# Altium footprint library EL.XXX.T01.PcbLib: 92 footprints (part 1 of 6)
Each footprint in its own frame and in the unit in brackets; x right, y up, seen from the top. Pads: shape width x height; smd on the part's side, far side on the other; paste and mask are expansions set on the pad; w line width, h text height; cw(c..) or ccw(c..) is an arc to the next point about the centre after c.
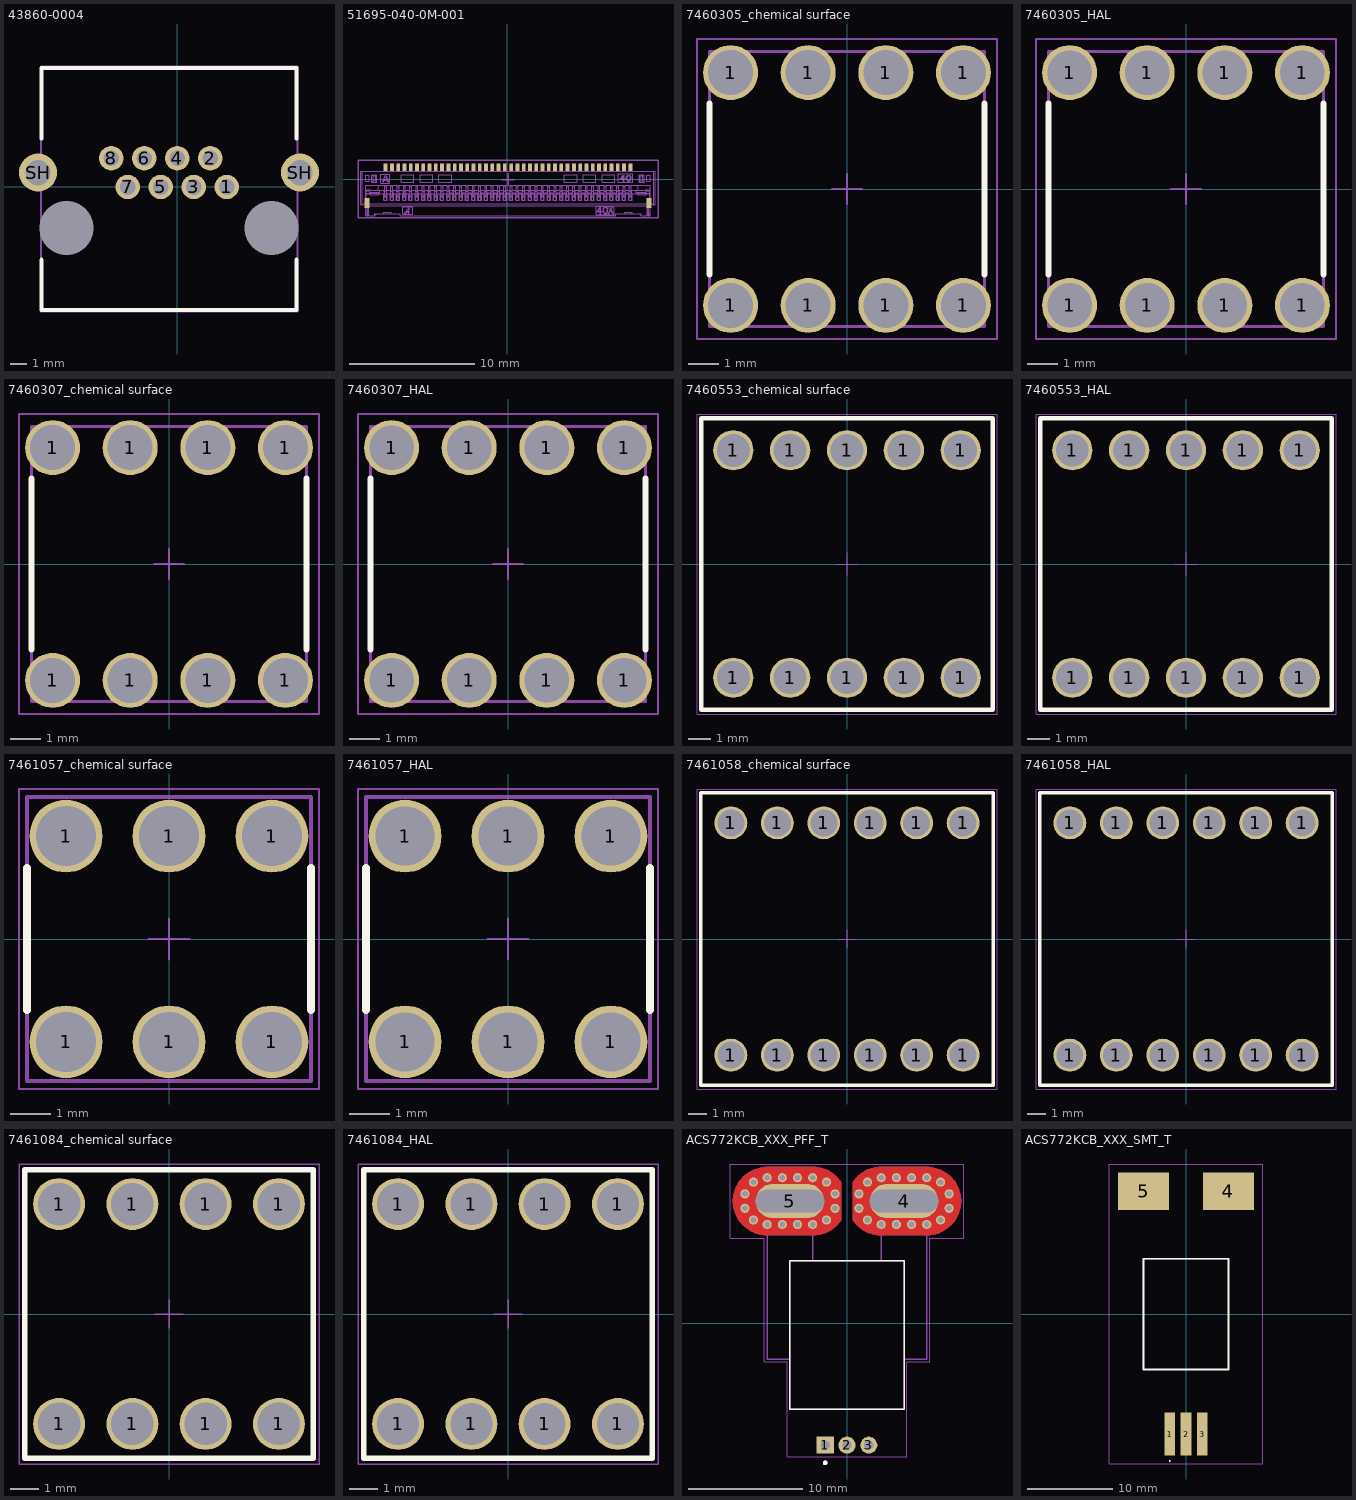
[diagram p0: the footprints below, top view; thin cyan lines are the x and y axes]

## 43860-0004 [mm]
pads (12):
  round 1.509 hole 0.97: 1(3.06,0) 2(2.04,1.78) 3(1.02,0) 4(0,1.78) 5(-1.02,0) 6(-2.04,1.78) 7(-3.06,0) 8(-4.08,1.78)
  round 0 hole 3.33 unplated paste-2539.97 mask+0.05: MP(-6.86,-2.54) MP(5.84,-2.54)
  round 2.355 hole 1.57: SH(-8.61,0.89) SH(7.59,0.89)
Top Overlay:
  lines w0.25: -8.385,-4.5 -8.385,-7.62 7.365,-7.62 7.365,-4.5 ; -8.385,3 -8.385,7.37 7.365,7.37 7.365,3
Top Designator:
  text ".Designator" at -2.7,8.9 h0.5
Top Assembly:
  circle w0.1: c-3.05,0 r0.424
  circle w0.1: c-1,0 r0.424
  circle w0.1: c1.049,0 r0.424
  circle w0.1: c3.1,0 r0.424
  circle w0.013: c-6.85,-2.55 r1.562
  circle w0.013: c5.85,-2.55 r1.562
  circle w0.1: c-4.1,1.8 r0.424
  circle w0.1: c-2.05,1.8 r0.424
  circle w0.1: c-0.001,1.8 r0.424
  circle w0.1: c2.05,1.8 r0.424
  lines w0.12: -8.44,-7.7 7.44,-7.7 7.44,7.45 -8.44,7.45 -8.44,-7.7
  text "RJ45" at -2.9,-6.7 h1.5
Top Value:
  text ".Comment" at -2.7,8.25 h0.5
3D body "43860-0004.stp": height 14.26, standoff -3.56, extent -9.57,-7.846 8.49,7.889

## 51695-040-0M-001 [mm]
pads (42):
  rect 0.3x0.6 smd mask+0.05: 1(-9.7,0.975) 2(-9.2,0.975) 3(-8.7,0.975) 4(-8.2,0.975) 5(-7.7,0.975) 6(-7.2,0.975) 7(-6.7,0.975) 8(-6.2,0.975) 9(-5.7,0.975) 10(-5.2,0.975) 11(-4.7,0.975) 12(-4.2,0.975) 13(-3.7,0.975) 14(-3.2,0.975) 15(-2.7,0.975) 16(-2.2,0.975) 17(-1.7,0.975) 18(-1.2,0.975) 19(-0.7,0.975) 20(-0.2,0.975) 21(0.3,0.975) 22(0.8,0.975) 23(1.3,0.975) 24(1.8,0.975) 25(2.3,0.975) 26(2.8,0.975) 27(3.3,0.975) 28(3.8,0.975) 29(4.3,0.975) 30(4.8,0.975) 31(5.3,0.975) 32(5.8,0.975) 33(6.3,0.975) 34(6.8,0.975) 35(7.3,0.975) 36(7.8,0.975) 37(8.3,0.975) 38(8.8,0.975) 39(9.3,0.975) 40(9.8,0.975)
  rect 0.4x0.8 smd mask+0.05: MP(-11.2,-1.875) MP(11.3,-1.875)
Top Courtyard:
  lines w0.1: -0.45,-0.025 0.55,-0.025 ; 0.05,-0.525 0.05,0.475 ; -11.9,-3.075 12,-3.075 12,1.525 -11.9,1.525 -11.9,-3.075
Top Designator:
  text ".Designator" at -1.775,2.65 h0.5
Top Assembly:
  drawing of 3027 lines, arcs and shapes, not listed
Top Value:
  text ".Comment" at -1.775,1.875 h0.5
3D body "S-51695-040xx-xxx.stp": height 1.2, standoff -0.03, extent -11.7,-2.925 11.8,1.125

## 7460305_chemical surface [mm] "WP-BUTR Bushes with two Rows Pin-Plate, M5, blind thr 6mm"
pads (8):
  round 1.8 hole 1.475: 1(-3.81,-3.81) 1(-3.81,3.81) 1(-1.27,-3.81) 1(-1.27,3.81) 1(1.27,-3.81) 1(1.27,3.81) 1(3.81,-3.81) 1(3.81,3.81)
Top Overlay:
  lines w0.2: -4.5,-2.8 -4.5,2.8 ; 4.5,-2.8 4.5,2.8
Top 3D Body:
  lines w0.1: -4.5,-4.5 -4.5,4.5 4.5,4.5 4.5,-4.5 -4.5,-4.5
Top Designator:
  lines w0.05: -0.5,0 0.5,0 ; 0,-0.5 0,0.5 ; -4.91,-4.91 4.91,-4.91 4.91,4.91 -4.91,4.91 -4.91,-4.91
Bottom Designator:
  text ".Designator" at -7.359,5.423 h1.5
Top Component Outline:
  lines w0.1: -4.5,-4.5 4.5,-4.5 4.5,4.5 -4.5,4.5 -4.5,-4.5
3D body "7460305.stp": height 7, standoff -3.5, extent -4.5,-4.5 4.5,4.5

## 7460305_HAL [mm] "WP-BUTR Bushes with two Rows Pin-Plate, M5, blind thr 6mm"
pads (8):
  round 1.8 hole 1.45: 1(-3.81,-3.81) 1(-3.81,3.81) 1(-1.27,-3.81) 1(-1.27,3.81) 1(1.27,-3.81) 1(1.27,3.81) 1(3.81,-3.81) 1(3.81,3.81)
Top Overlay:
  lines w0.2: -4.5,-2.8 -4.5,2.8 ; 4.5,-2.8 4.5,2.8
Top 3D Body:
  lines w0.1: -4.5,-4.5 -4.5,4.5 4.5,4.5 4.5,-4.5 -4.5,-4.5
Top Designator:
  lines w0.05: -0.5,0 0.5,0 ; 0,-0.5 0,0.5 ; -4.91,-4.91 -4.91,4.91 4.91,4.91 4.91,-4.91 -4.91,-4.91
Bottom Designator:
  text ".Designator" at -7.668,5.437 h1.5
Top Component Outline:
  lines w0.1: -4.5,-4.5 -4.5,4.5 4.5,4.5 4.5,-4.5 -4.5,-4.5
3D body "7460305.stp": height 7, standoff -3.5, extent -4.5,-4.5 4.5,4.5

## 7460307_chemical surface [mm] "WP-BUTR Bushes with two Rows Pin-Plate, M4, blind thr 6mm"
pads (8):
  round 1.8 hole 1.475: 1(-3.81,-3.81) 1(-3.81,3.81) 1(-1.27,-3.81) 1(-1.27,3.81) 1(1.27,-3.81) 1(1.27,3.81) 1(3.81,-3.81) 1(3.81,3.81)
Top Overlay:
  lines w0.2: -4.5,-2.8 -4.5,2.8 ; 4.5,-2.8 4.5,2.8
Top 3D Body:
  lines w0.1: -4.5,-4.5 4.5,-4.5 4.5,4.5 -4.5,4.5 -4.5,-4.5
Top Designator:
  lines w0.05: -0.5,0 0.5,0 ; 0,-0.5 0,0.5 ; -4.91,-4.91 -4.91,4.91 4.91,4.91 4.91,-4.91 -4.91,-4.91
Bottom Designator:
  text ".Designator" at -7.625,5.596 h1.5
Top Component Outline:
  lines w0.1: -4.5,-4.5 -4.5,4.5 4.5,4.5 4.5,-4.5 -4.5,-4.5
3D body "7460307.stp": height 7, standoff -3.5, extent -4.5,-4.5 4.5,4.5

## 7460307_HAL [mm] "WP-BUTR Bushes with two Rows Pin-Plate, M4, blind thr 6mm"
pads (8):
  round 1.8 hole 1.45: 1(-3.81,-3.81) 1(-3.81,3.81) 1(-1.27,-3.81) 1(-1.27,3.81) 1(1.27,-3.81) 1(1.27,3.81) 1(3.81,-3.81) 1(3.81,3.81)
Top Overlay:
  lines w0.2: -4.5,-2.8 -4.5,2.8 ; 4.5,-2.8 4.5,2.8
Top 3D Body:
  lines w0.1: -4.5,-4.5 -4.5,4.5 4.5,4.5 4.5,-4.5 -4.5,-4.5
Top Designator:
  lines w0.05: -0.5,0 0.5,0 ; 0,-0.5 0,0.5 ; -4.91,-4.91 -4.91,4.91 4.91,4.91 4.91,-4.91 -4.91,-4.91
Bottom Designator:
  text ".Designator" at -7.498,-0.5 h1.5
Top Component Outline:
  lines w0.1: -4.5,-4.5 4.5,-4.5 4.5,4.5 -4.5,4.5 -4.5,-4.5
3D body "7460307.stp": height 7, standoff -3.5, extent -4.5,-4.5 4.5,4.5

## 7460553_chemical surface [mm] "WP-BUTR Bushes with two Rows Pin-Plate, M8, blind thr 10mm"
pads (10):
  round 1.8 hole 1.475: 1(-5.08,-5.08) 1(-5.08,5.08) 1(-2.54,-5.08) 1(-2.54,5.08) 1(0,-5.08) 1(0,5.08) 1(2.54,-5.08) 1(2.54,5.08) 1(5.08,-5.08) 1(5.08,5.08)
Top Overlay:
  lines w0.2: -6.5,-6.5 6.5,-6.5 6.5,6.5 -6.5,6.5 -6.5,-6.5
Top 3D Body:
  lines w0.1: -6.5,-6.5 6.5,-6.5 6.5,6.5 -6.5,6.5 -6.5,-6.5
Top Designator:
  lines w0.05: -0.5,0 0.5,0 ; 0,-0.5 0,0.5 ; -6.7,-6.7 -6.7,6.7 6.7,6.7 6.7,-6.7 -6.7,-6.7
Bottom Designator:
  text ".Designator" at -7.498,-0.5 h1.5
Top Component Outline:
  lines w0.1: -6.5,-6.5 -6.5,6.5 6.5,6.5 6.5,-6.5 -6.5,-6.5
3D body "7460553.stp": height 13.5, standoff -3.5, extent -6.5,-6.5 6.5,6.5

## 7460553_HAL [mm] "WP-BUTR Bushes with two Rows Pin-Plate, M8, blind thr 10mm"
pads (10):
  round 1.8 hole 1.45: 1(-5.08,-5.08) 1(-5.08,5.08) 1(-2.54,-5.08) 1(-2.54,5.08) 1(0,-5.08) 1(0,5.08) 1(2.54,-5.08) 1(2.54,5.08) 1(5.08,-5.08) 1(5.08,5.08)
Top Overlay:
  lines w0.2: -6.5,-6.5 6.5,-6.5 6.5,6.5 -6.5,6.5 -6.5,-6.5
Top 3D Body:
  lines w0.1: -6.5,-6.5 6.5,-6.5 6.5,6.5 -6.5,6.5 -6.5,-6.5
Top Designator:
  lines w0.05: -0.5,0 0.5,0 ; 0,-0.5 0,0.5 ; -6.7,-6.7 -6.7,6.7 6.7,6.7 6.7,-6.7 -6.7,-6.7
Bottom Designator:
  text ".Designator" at -7.498,-0.5 h1.5
Top Component Outline:
  lines w0.1: -6.5,-6.5 -6.5,6.5 6.5,6.5 6.5,-6.5 -6.5,-6.5
3D body "7460553.stp": height 13.5, standoff -3.5, extent -6.5,-6.5 6.5,6.5

## 7461057_chemical surface [mm] "WP-BUTR Bushes with two Rows Pin-Plate, M3, blind thr 6mm"
pads (6):
  round 1.8 hole 1.475: 1(-2.54,-2.54) 1(-2.54,2.54) 1(0,-2.54) 1(0,2.54) 1(2.54,-2.54) 1(2.54,2.54)
Top Overlay:
  lines w0.2: -3.5,-1.75 -3.5,1.75 ; 3.5,-1.75 3.5,1.75
Top 3D Body:
  lines w0.1: -3.5,-3.5 3.5,-3.5 3.5,3.5 -3.5,3.5 -3.5,-3.5
Top Designator:
  lines w0.05: -0.5,0 0.5,0 ; 0,-0.5 0,0.5 ; -3.7,-3.7 -3.7,3.7 3.7,3.7 3.7,-3.7 -3.7,-3.7
Bottom Designator:
  text ".Designator" at -7.498,-0.5 h1.5
Top Component Outline:
  lines w0.1: -3.5,-3.5 -3.5,3.5 3.5,3.5 3.5,-3.5 -3.5,-3.5
3D body "7461057.stp": height 6, standoff -3.5, extent -3.5,-3.5 3.5,3.5

## 7461057_HAL [mm] "WP-BUTR Bushes with two Rows Pin-Plate, M3, blind thr 6mm"
pads (6):
  round 1.8 hole 1.45: 1(-2.54,-2.54) 1(-2.54,2.54) 1(0,-2.54) 1(0,2.54) 1(2.54,-2.54) 1(2.54,2.54)
Top Overlay:
  lines w0.2: -3.5,-1.75 -3.5,1.75 ; 3.5,-1.75 3.5,1.75
Top 3D Body:
  lines w0.1: -3.5,-3.5 3.5,-3.5 3.5,3.5 -3.5,3.5 -3.5,-3.5
Top Designator:
  lines w0.05: -0.5,0 0.5,0 ; 0,-0.5 0,0.5 ; -3.7,-3.7 -3.7,3.7 3.7,3.7 3.7,-3.7 -3.7,-3.7
Bottom Designator:
  text ".Designator" at -7.498,-0.5 h1.5
Top Component Outline:
  lines w0.1: -3.5,-3.5 -3.5,3.5 3.5,3.5 3.5,-3.5 -3.5,-3.5
3D body "7461057.stp": height 6, standoff -3.5, extent -3.5,-3.5 3.5,3.5

## 7461058_chemical surface [mm] "WP-BUTR Bushes with two Rows Pin-Plate, M10, blind 11mm"
pads (12):
  round 1.8 hole 1.475: 1(-6.35,-6.35) 1(-6.35,6.35) 1(-3.81,-6.35) 1(-3.81,6.35) 1(-1.27,-6.35) 1(-1.27,6.35) 1(1.27,-6.35) 1(1.27,6.35) 1(3.81,-6.35) 1(3.81,6.35) 1(6.35,-6.35) 1(6.35,6.35)
Top Overlay:
  lines w0.2: -8,-8 -8,8 8,8 8,-8 -8,-8
Top 3D Body:
  lines w0.1: -8,-8 -8,8 8,8 8,-8 -8,-8
Top Designator:
  lines w0.05: -0.5,0 0.5,0 ; 0,-0.5 0,0.5 ; -8.2,-8.2 8.2,-8.2 8.2,8.2 -8.2,8.2 -8.2,-8.2
Bottom Designator:
  text ".Designator" at -7.498,-0.5 h1.5
Top Component Outline:
  lines w0.1: -8,-8 8,-8 8,8 -8,8 -8,-8
3D body "7461058.stp": height 17.5, standoff -3.5, extent -8,-8 8,8

## 7461058_HAL [mm] "WP-BUTR Bushes with two Rows Pin-Plate, M10, blind 11mm"
pads (12):
  round 1.8 hole 1.45: 1(-6.35,-6.35) 1(-6.35,6.35) 1(-3.81,-6.35) 1(-3.81,6.35) 1(-1.27,-6.35) 1(-1.27,6.35) 1(1.27,-6.35) 1(1.27,6.35) 1(3.81,-6.35) 1(3.81,6.35) 1(6.35,-6.35) 1(6.35,6.35)
Top Overlay:
  lines w0.2: -8,-8 8,-8 8,8 -8,8 -8,-8
Top 3D Body:
  lines w0.1: -8,-8 -8,8 8,8 8,-8 -8,-8
Top Designator:
  lines w0.05: -0.5,0 0.5,0 ; 0,-0.5 0,0.5 ; -8.2,-8.2 -8.2,8.2 8.2,8.2 8.2,-8.2 -8.2,-8.2
Bottom Designator:
  text ".Designator" at -7.498,-0.5 h1.5
Top Component Outline:
  lines w0.1: -8,-8 -8,8 8,8 8,-8 -8,-8
3D body "7461058.stp": height 17.5, standoff -3.5, extent -8,-8 8,8

## 7461084_chemical surface [mm] "WP-BUTR Bushes with two Rows Pin-Plate, M6, blind 9mm"
pads (8):
  round 1.8 hole 1.475: 1(-3.81,-3.81) 1(-3.81,3.81) 1(-1.27,-3.81) 1(-1.27,3.81) 1(1.27,-3.81) 1(1.27,3.81) 1(3.81,-3.81) 1(3.81,3.81)
Top Overlay:
  lines w0.2: -5,-5 -5,5 5,5 5,-5 -5,-5
Top 3D Body:
  lines w0.1: -5,-5 -5,5 5,5 5,-5 -5,-5
Top Designator:
  lines w0.05: -0.5,0 0.5,0 ; 0,-0.5 0,0.5 ; -5.2,-5.2 5.2,-5.2 5.2,5.2 -5.2,5.2 -5.2,-5.2
Bottom Designator:
  text ".Designator" at -7.498,-0.5 h1.5
Top Component Outline:
  lines w0.1: -5,-5 5,-5 5,5 -5,5 -5,-5
3D body "7461084.stp": height 13.5, standoff -3.5, extent -5,-5 5,5

## 7461084_HAL [mm] "WP-BUTR Bushes with two Rows Pin-Plate, M6, blind 9mm"
pads (8):
  round 1.8 hole 1.45: 1(-3.81,-3.81) 1(-3.81,3.81) 1(-1.27,-3.81) 1(-1.27,3.81) 1(1.27,-3.81) 1(1.27,3.81) 1(3.81,-3.81) 1(3.81,3.81)
Top Overlay:
  lines w0.2: -5,-5 5,-5 5,5 -5,5 -5,-5
Top 3D Body:
  lines w0.1: -5,-5 -5,5 5,5 5,-5 -5,-5
Top Designator:
  lines w0.05: -0.5,0 0.5,0 ; 0,-0.5 0,0.5 ; -5.2,-5.2 -5.2,5.2 5.2,5.2 5.2,-5.2 -5.2,-5.2
Bottom Designator:
  text ".Designator" at -7.498,-0.5 h1.5
Top Component Outline:
  lines w0.1: -5,-5 -5,5 5,5 5,-5 -5,-5
3D body "7461084.stp": height 13.5, standoff -3.5, extent -5,-5 5,5

## ACS772KCB_XXX_PFF_T [mm]
height 7.1
pads (37):
  rect 1.5x1.5 / inner round 1.5 / far side rect 1.5x1.5 hole 0.8: 1(-1.91,-10.7)
  round 1.5 hole 0.8: 2(0,-10.7) 3(1.91,-10.7)
  oval 6x3 hole 2 slot 6 at 0 deg mask+0: 4(5,10.7) 5(-5,10.7)
  round 0.8 hole 0.5: 4_1(3,8.65) 4_2(4.33,8.65) 4_3(5.66,8.65) 4_4(6.99,8.65) 4_5(8.205,9.042) 4_6(8.95,10.067) 4_7(8.95,11.333) 4_8(8.205,12.358) 4_9(6.99,12.75) 4_10(5.66,12.75) 4_11(4.33,12.75) 4_12(3,12.75) 4_13(1.795,12.358) 4_14(1.05,11.333) 4_15(1.05,10.067) 4_16(1.795,9.042) 5_1(-7,8.65) 5_2(-5.67,8.65) 5_3(-4.34,8.65) 5_4(-3.01,8.65) 5_5(-1.795,9.042) 5_6(-1.05,10.067) 5_7(-1.05,11.333) 5_8(-1.795,12.358) 5_9(-3.01,12.75) 5_10(-4.34,12.75) 5_11(-5.67,12.75) 5_12(-7,12.75) 5_13(-8.205,12.358) 5_14(-8.95,11.333) 5_15(-8.95,10.067) 5_16(-8.205,9.042)
Top Layer:
  region: 7.157,13.696 7.314,13.684 7.469,13.663 7.624,13.634 7.776,13.598 7.927,13.553 8.075,13.501 8.22,13.441 8.362,13.373 8.5,13.298 8.634,13.216 8.763,13.127 8.888,13.031 9.007,12.929 9.121,12.821 9.229,12.707 9.331,12.588 9.427,12.463 9.516,12.334 9.598,12.2 9.673,12.062 9.741,11.92 9.801,11.775 9.853,11.627 9.898,11.476 9.934,11.324 9.963,11.169 9.984,11.014 9.996,10.857 10,10.7 9.996,10.543 9.984,10.386 9.963,10.231 9.934,10.076 9.898,9.924 9.853,9.773 9.801,9.625 9.741,9.48 9.673,9.338 9.598,9.2 9.516,9.066 9.427,8.937 9.331,8.812 9.229,8.693 9.121,8.579 9.007,8.471 8.888,8.369 8.763,8.273 8.634,8.184 8.5,8.102 8.362,8.027 8.22,7.959 8.075,7.899 7.927,7.847 7.776,7.802 7.624,7.766 7.469,7.737 7.314,7.716 7.157,7.704 7,7.7 3,7.7 2.885,7.702 2.787,7.706 2.689,7.715 2.591,7.726 2.493,7.741 2.396,7.759 2.3,7.78 2.205,7.804 2.11,7.831 2.016,7.862 1.924,7.896 1.832,7.932 1.742,7.972 1.653,8.015 1.566,8.06 1.48,8.109 1.396,8.16 1.313,8.214 1.233,8.271 1.154,8.33 1.077,8.392 1.003,8.456 0.931,8.523 0.86,8.593 0.793,8.664 0.727,8.738 0.664,8.814 0.604,8.892 0.546,8.972 0.5,9.04 0.5,12.36 0.546,12.428 0.604,12.508 0.664,12.586 0.727,12.662 0.793,12.736 0.86,12.807 0.931,12.877 1.003,12.944 1.077,13.008 1.154,13.07 1.233,13.129 1.313,13.186 1.396,13.24 1.48,13.291 1.566,13.34 1.653,13.385 1.742,13.428 1.832,13.468 1.924,13.504 2.016,13.538 2.11,13.569 2.205,13.596 2.3,13.62 2.396,13.641 2.493,13.659 2.591,13.674 2.689,13.685 2.787,13.694 2.885,13.698 3,13.7 7,13.7
  region: -2.885,13.698 -2.787,13.694 -2.689,13.685 -2.591,13.674 -2.493,13.659 -2.396,13.641 -2.3,13.62 -2.205,13.596 -2.11,13.569 -2.016,13.538 -1.924,13.504 -1.832,13.468 -1.742,13.428 -1.653,13.385 -1.566,13.34 -1.48,13.291 -1.396,13.24 -1.313,13.186 -1.233,13.129 -1.154,13.07 -1.077,13.008 -1.003,12.944 -0.931,12.877 -0.86,12.807 -0.793,12.736 -0.727,12.662 -0.664,12.586 -0.604,12.508 -0.546,12.428 -0.5,12.36 -0.5,9.04 -0.546,8.972 -0.604,8.892 -0.664,8.814 -0.727,8.738 -0.793,8.664 -0.86,8.593 -0.931,8.523 -1.003,8.456 -1.077,8.392 -1.154,8.33 -1.233,8.271 -1.313,8.214 -1.396,8.16 -1.48,8.109 -1.566,8.06 -1.653,8.015 -1.742,7.972 -1.832,7.932 -1.924,7.896 -2.016,7.862 -2.11,7.831 -2.205,7.804 -2.3,7.78 -2.396,7.759 -2.493,7.741 -2.591,7.726 -2.689,7.715 -2.787,7.706 -2.885,7.702 -3,7.7 -7,7.7 -7.157,7.704 -7.314,7.716 -7.469,7.737 -7.624,7.766 -7.776,7.802 -7.927,7.847 -8.075,7.899 -8.22,7.959 -8.362,8.027 -8.5,8.102 -8.634,8.184 -8.763,8.273 -8.888,8.369 -9.007,8.471 -9.121,8.579 -9.229,8.693 -9.331,8.812 -9.427,8.937 -9.516,9.066 -9.598,9.2 -9.673,9.338 -9.741,9.48 -9.801,9.625 -9.853,9.773 -9.898,9.924 -9.934,10.076 -9.963,10.231 -9.984,10.386 -9.996,10.543 -10,10.7 -9.996,10.857 -9.984,11.014 -9.963,11.169 -9.934,11.324 -9.898,11.476 -9.853,11.627 -9.801,11.775 -9.741,11.92 -9.673,12.062 -9.598,12.2 -9.516,12.334 -9.427,12.463 -9.331,12.588 -9.229,12.707 -9.121,12.821 -9.007,12.929 -8.888,13.031 -8.763,13.127 -8.634,13.216 -8.5,13.298 -8.362,13.373 -8.22,13.441 -8.075,13.501 -7.927,13.553 -7.776,13.598 -7.624,13.634 -7.469,13.663 -7.314,13.684 -7.157,13.696 -7,13.7 -3,13.7
Bottom Layer:
  region: -2.885,13.698 -2.787,13.694 -2.689,13.685 -2.591,13.674 -2.493,13.659 -2.396,13.641 -2.3,13.62 -2.205,13.596 -2.11,13.569 -2.016,13.538 -1.924,13.504 -1.832,13.468 -1.742,13.428 -1.653,13.385 -1.566,13.34 -1.48,13.291 -1.396,13.24 -1.313,13.186 -1.233,13.129 -1.154,13.07 -1.077,13.008 -1.003,12.944 -0.931,12.877 -0.86,12.807 -0.793,12.736 -0.727,12.662 -0.664,12.586 -0.604,12.508 -0.546,12.428 -0.5,12.36 -0.5,9.04 -0.546,8.972 -0.604,8.892 -0.664,8.814 -0.727,8.738 -0.793,8.664 -0.86,8.593 -0.931,8.523 -1.003,8.456 -1.077,8.392 -1.154,8.33 -1.233,8.271 -1.313,8.214 -1.396,8.16 -1.48,8.109 -1.566,8.06 -1.653,8.015 -1.742,7.972 -1.832,7.932 -1.924,7.896 -2.016,7.862 -2.11,7.831 -2.205,7.804 -2.3,7.78 -2.396,7.759 -2.493,7.741 -2.591,7.726 -2.689,7.715 -2.787,7.706 -2.885,7.702 -3,7.7 -7,7.7 -7.157,7.704 -7.314,7.716 -7.469,7.737 -7.624,7.766 -7.776,7.802 -7.927,7.847 -8.075,7.899 -8.22,7.959 -8.362,8.027 -8.5,8.102 -8.634,8.184 -8.763,8.273 -8.888,8.369 -9.007,8.471 -9.121,8.579 -9.229,8.693 -9.331,8.812 -9.427,8.937 -9.516,9.066 -9.598,9.2 -9.673,9.338 -9.741,9.48 -9.801,9.625 -9.853,9.773 -9.898,9.924 -9.934,10.076 -9.963,10.231 -9.984,10.386 -9.996,10.543 -10,10.7 -9.996,10.857 -9.984,11.014 -9.963,11.169 -9.934,11.324 -9.898,11.476 -9.853,11.627 -9.801,11.775 -9.741,11.92 -9.673,12.062 -9.598,12.2 -9.516,12.334 -9.427,12.463 -9.331,12.588 -9.229,12.707 -9.121,12.821 -9.007,12.929 -8.888,13.031 -8.763,13.127 -8.634,13.216 -8.5,13.298 -8.362,13.373 -8.22,13.441 -8.075,13.501 -7.927,13.553 -7.776,13.598 -7.624,13.634 -7.469,13.663 -7.314,13.684 -7.157,13.696 -7,13.7 -3,13.7
  region: 7.157,13.696 7.314,13.684 7.469,13.663 7.624,13.634 7.776,13.598 7.927,13.553 8.075,13.501 8.22,13.441 8.362,13.373 8.5,13.298 8.634,13.216 8.763,13.127 8.888,13.031 9.007,12.929 9.121,12.821 9.229,12.707 9.331,12.588 9.427,12.463 9.516,12.334 9.598,12.2 9.673,12.062 9.741,11.92 9.801,11.775 9.853,11.627 9.898,11.476 9.934,11.324 9.963,11.169 9.984,11.014 9.996,10.857 10,10.7 9.996,10.543 9.984,10.386 9.963,10.231 9.934,10.076 9.898,9.924 9.853,9.773 9.801,9.625 9.741,9.48 9.673,9.338 9.598,9.2 9.516,9.066 9.427,8.937 9.331,8.812 9.229,8.693 9.121,8.579 9.007,8.471 8.888,8.369 8.763,8.273 8.634,8.184 8.5,8.102 8.362,8.027 8.22,7.959 8.075,7.899 7.927,7.847 7.776,7.802 7.624,7.766 7.469,7.737 7.314,7.716 7.157,7.704 7,7.7 3,7.7 2.885,7.702 2.787,7.706 2.689,7.715 2.591,7.726 2.493,7.741 2.396,7.759 2.3,7.78 2.205,7.804 2.11,7.831 2.016,7.862 1.924,7.896 1.832,7.932 1.742,7.972 1.653,8.015 1.566,8.06 1.48,8.109 1.396,8.16 1.313,8.214 1.233,8.271 1.154,8.33 1.077,8.392 1.003,8.456 0.931,8.523 0.86,8.593 0.793,8.664 0.727,8.738 0.664,8.814 0.604,8.892 0.546,8.972 0.5,9.04 0.5,12.36 0.546,12.428 0.604,12.508 0.664,12.586 0.727,12.662 0.793,12.736 0.86,12.807 0.931,12.877 1.003,12.944 1.077,13.008 1.154,13.07 1.233,13.129 1.313,13.186 1.396,13.24 1.48,13.291 1.566,13.34 1.653,13.385 1.742,13.428 1.832,13.468 1.924,13.504 2.016,13.538 2.11,13.569 2.205,13.596 2.3,13.62 2.396,13.641 2.493,13.659 2.591,13.674 2.689,13.685 2.787,13.694 2.885,13.698 3,13.7 7,13.7
Top Overlay:
  circle w0.2: c-1.91,-12.25 r0.1
  lines w0.127: -5,-7.55 5,-7.55 5,5.45 -5,5.45 -5,-7.55
Top Solder:
  drawing of 2 lines, arcs and shapes, not listed
Bottom Solder:
  drawing of 2 lines, arcs and shapes, not listed
Mechanical 1:
  lines w0: -5,11.7 -4.95,11.7 ; 5,11.7 5.05,11.7
Mechanical 13:
  circle w0.2: c-1.91,-12.25 r0.1
  lines w0.127: -3,5.5 -3,11.45 -7,11.45 -7,-3.15 -5,-3.15 ; 3,5.5 3,11.45 7,11.45 7,-3.15 5,-3.15 ; -5,-3.15 -5,-7.55 5,-7.55 5,5.45 -5,5.45 -5,-3.15
Mechanical 15:
  lines w0.05: -10.25,7.45 -7.25,7.45 -7.25,-3.4 -5.25,-3.4 -5.25,-11.7 5.25,-11.7 5.25,-3.4 7.25,-3.4 7.25,7.45 10.25,7.45 10.25,13.95 -10.25,13.95 -10.25,7.45
3D body "step_temp.STEP": height 7.1, standoff -3.5, extent -7,-11.136 7,11.45

## ACS772KCB_XXX_SMT_T [mm]
pads (5):
  rect 1.27x5.03 smd: 1(-1.9,-14.1) 2(0,-14.1) 3(1.9,-14.1)
  rect 6.01x4.4 smd: 4(4.995,14.455) 5(-4.995,14.455)
Top Overlay:
  lines w0.1: -1.9,-17.3 ccw(c-1.9,-17.25) -1.9,-17.2 ccw(c-1.9,-17.25) -1.9,-17.3
  lines w0.2: -5,-6.5 5,-6.5 5,6.5 -5,6.5 -5,-6.5
Bottom Designator:
  text ".Designator" at 0.5,-7.498 h1.5
Mechanical 15:
  lines w0.1: -5,-6.5 5,-6.5 5,6.5 -5,6.5 -5,-6.5
Bottom Assembly:
  lines w0.1: -9,-17.615 9,-17.615 9,17.655 -9,17.655 -9,-17.615
3D body "ACS772KCB-150B-SMT-T.stp": height 7.31, standoff -0.04, extent -7,-16 7,16.1